# Altium footprint library nano.PcbLib: 1 footprints
Each footprint in its own frame and in the unit in brackets; x right, y up, seen from the top. Pads: shape width x height; smd on the part's side, far side on the other; paste and mask are expansions set on the pad; w line width, h text height; cw(c..) or ccw(c..) is an arc to the next point about the centre after c.
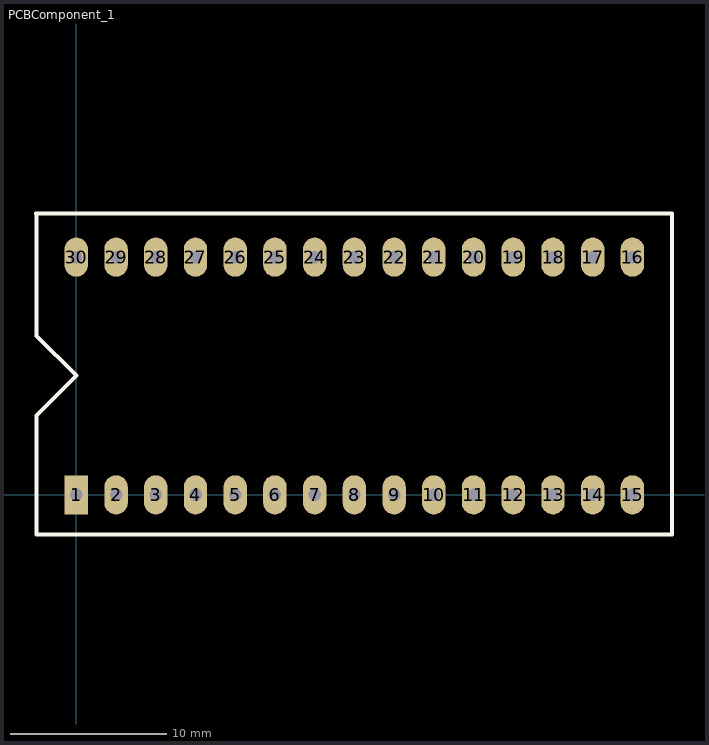
[diagram p0: the footprint, top view; thin cyan lines are the x and y axes]

## PCBComponent_1 [mm]
pads (30):
  rect 1.5x2.5 hole 0.8: 1(0,0)
  oval 1.5x2.5 hole 0.8: 2(2.54,0) 3(5.08,0) 4(7.62,0) 5(10.16,0) 6(12.7,0) 7(15.24,0) 8(17.78,0) 9(20.32,0) 10(22.86,0) 11(25.4,0) 12(27.94,0) 13(30.48,0) 14(33.02,0) 15(35.56,0) 16(35.56,15.2) 17(33.02,15.2) 18(30.48,15.2) 19(27.94,15.2) 20(25.4,15.2) 21(22.86,15.2) 22(20.32,15.2) 23(17.78,15.2) 24(15.24,15.2) 25(12.7,15.2) 26(10.16,15.2) 27(7.62,15.2) 28(5.08,15.2) 29(2.54,15.2) 30(0,15.2)
Top Overlay:
  lines w0.254: -2.59,18 -0.05,18 38.05,18 ; -2.54,18 -2.54,10.16 0,7.62 -2.54,5.08 -2.54,-2.54 38.1,-2.54 38.1,18